# Altium footprint library Murata Pulse Transformer.PcbLib: 1 footprints
Each footprint in its own frame and in the unit in brackets; x right, y up, seen from the top. Pads: shape width x height; smd on the part's side, far side on the other; paste and mask are expansions set on the pad; w line width, h text height; cw(c..) or ccw(c..) is an arc to the next point about the centre after c.
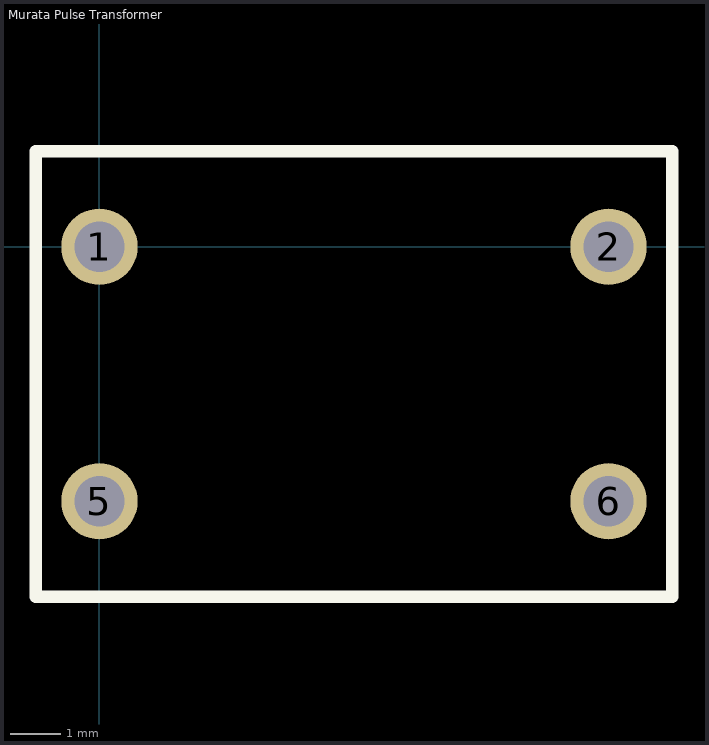
[diagram p0: the footprint, top view; thin cyan lines are the x and y axes]

## Murata Pulse Transformer [mil]
pads (4):
  round 60 hole 39.37: 1(0,0) 2(400,0) 5(0,-200) 6(400,-200)
Top Overlay:
  lines w10: -50,-275 -50,75 450,75 450,-275 -50,-275